# EAGLE library part LMC555 (library IC)
LMC555 CMOS Timer from National Semiconductor or equivalent
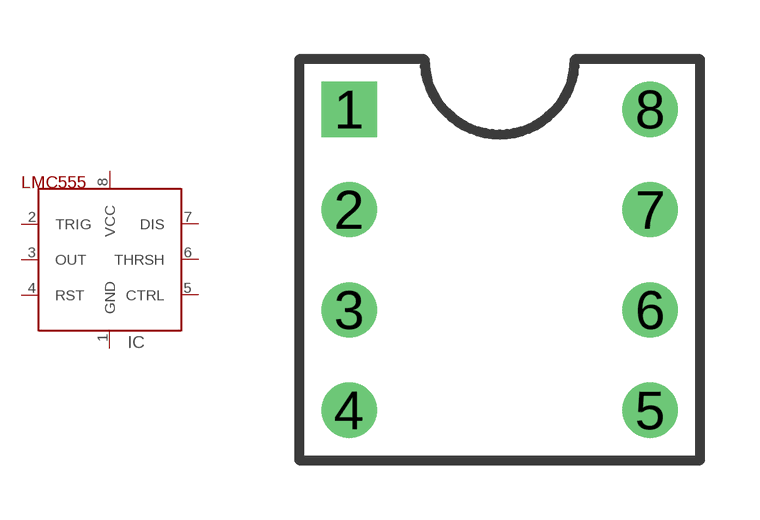
[diagram p48: symbol with the pads of DIP-8C; footprint DIP-8C]

Designator prefix IC

## LMC555CN-ND  [DIP-8C]
1  GND  pwr
2  TRIG
3  OUT
4  RST
5  CTRL
6  THRSH
7  DIS
8  VCC  pwr

## Footprint DIP-8C (pad centres in mm)
drill 0.889 square: 1 -3.81,3.81
drill 0.889 round: 2 -3.81,1.27; 3 -3.81,-1.27; 4 -3.81,-3.81; 5 3.81,-3.81; 6 3.81,-1.27; 7 3.81,1.27; 8 3.81,3.81